# Altium integrated library TKAltiumLib.IntLib: 3 symbols
Pins are listed as number, name and electrical type; pins without a type are passive.

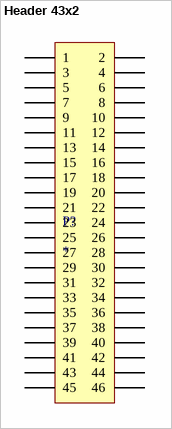
[diagram p0: symbol Header 43x2]

## Header 43x2
designator P?
signal-integrity model Model Name (Model Description)
footprint Header 43x2 (Header 43 Pos 2 Row)
pins: 1, 2, 3, 4, 5, 6, 7, 8, 9, 10, 11, 12, 13, 14, 15, 16, 17, 18, 19, 20, 21, 22, 23, 24, 25, 26, 27, 28, 29, 30, 31, 32, 33, 34, 35, 36, 37, 38, 39, 40, 41, 42, 43, 44, 45, 46


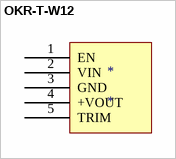
[diagram p1: symbol OKR-T-W12]

## OKR-T-W12
designator *
CONV DC/DC 10A 12VIN POL SIP; Manufacturer: Murata Power Solutions Inc; Manufacturer Part Number: OKR-T/10-W12-C; Power (Watts) - Manufacture Series: 50W; Number of Outputs: 1; Voltage - Input (Min): 4.5V; Voltage - Input (Max): 14V; Voltage - Output 1: 0.591 ~ 6 V; Efficiency: 92%; Supplier 1: Digi-Key; RoHS: RoHS Compliant; Category: Power Supplies - Board Mount; Stock 1: 6694; Pricing 1: 1=10, 5=9.92, 10=9.84, 25=9.7, 50=9.4, 100=8.9775 (USD); Packaging: Tray; Type: Non-Isolated PoL Module; Voltage - Output 2: -; Voltage - Output 3: -; Current - Output (Max): 10A; Voltage - Isolation: -; Features: Remote On/Off, OCP, OTP, SCP, UVLO; Mounting Type: Through Hole; Package / Case: 5-SIP Module; Size / Dimension: 0.41" L x 0.30" W x 0.65" H (10.4mm x 7.6mm x 16.5mm); Operating Temperature: -40°C ~ 85°C; Power (Watts) - Max: 50W; ComponentLink1URL: http://www.murata-ps.com/data/power/okr-t10-w12.pdf; ComponentLink1Description: http://www.murata-ps.com/data/power/okr-t10-w12.pdf; Supplier Part Number 1: 811-2180-ND
footprint OKR-T-W12
pins: 1 EN, 2 VIN, 3 GND, 4 +VOUT, 5 TRIM


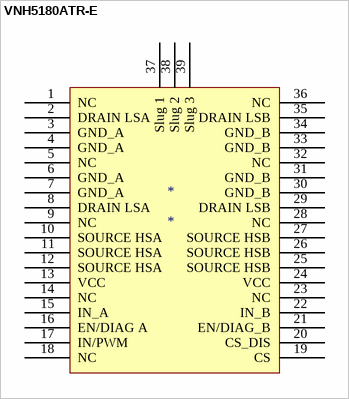
[diagram p2: symbol VNH5180ATR-E]

## VNH5180ATR-E
designator *
IC MOTOR DRIVER PAR 36POWERSSO; Supplier 1: Digi-Key; Supplier Part Number 1: 497-13075-1-ND
footprint VNH5180A-E (SSOP, 36-Leads, Body 10.30x7.50mm, Pitch 0.50mm, Thermal Pad 7.40x5.20mm, IPC Medium Density)
pins: 1 NC, 2 DRAIN LSA, 3 GND_A, 4 GND_A, 5 NC, 6 GND_A, 7 GND_A, 8 DRAIN LSA, 9 NC, 10 SOURCE HSA, 11 SOURCE HSA, 12 SOURCE HSA, 13 VCC, 14 NC, 15 IN_A, 16 EN/DIAG A, 17 IN/PWM, 18 NC, 19 CS, 20 CS_DIS, 21 EN/DIAG_B, 22 IN_B, 23 NC, 24 VCC, 25 SOURCE HSB, 26 SOURCE HSB, 27 SOURCE HSB, 28 NC, 29 DRAIN LSB, 30 GND_B, 31 GND_B, 32 NC, 33 GND_B, 34 GND_B, 35 DRAIN LSB, 36 NC, 37 Slug 1, 38 Slug 2, 39 Slug 3